# Altium schematic symbol library SEN-09836.SchLib: 1 symbol
Pins are listed as number, name and electrical type; pins without a type are passive.

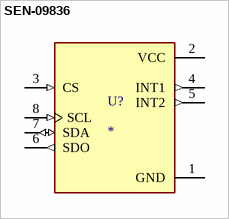
[diagram p0: symbol SEN-09836]

## SEN-09836
designator U?
ADXL345 iMEMSÂ® Accelerometer, 3 Axis Sensor Evaluation Board; MF: SparkFun Electronics; MP: SEN-09836; SnapEDA_Link: https://www.snapeda.com/parts/SEN-09836/SparkFun/view-part/?ref=snap; Package: None; Value: *; Check_prices: https://www.snapeda.com/parts/SEN-09836/SparkFun/view-part/?ref=eda
footprint MODULE_SEN-09836
pins: 1 GND (power), 2 VCC (power), 3 CS (in), 4 INT1 (out), 5 INT2 (out), 6 SDO (out), 7 SDA (io), 8 SCL (in)